# EAGLE library part 658561423050 (library WR-BTB)
WR-BTB Board to Board Characteristics Insulator flammability rating: UL94 V-0 Defined board to board distance from 5.00 mm up to 16.00 mm Available pin-counts: 64 pins (1.0 mm version) / 40, 80 or 100 pins (0.8 mm version) Contact plating: selective gold Operating temperature: -55 °C up to +85 °C Quality class: 30 mating cycles Contact resistance: 30 mΩ Working Voltage: 100 V (AC) UL approval: E323964 Applications Board-to-board connection for secure and fast data connections Defined PCB spacing In conjunction with SMT spacers or threaded spacers, a stable connection of stacked PCBs. <https://www.we-online.com/components/media/o790799v209%20WR-BTB_Gruppe.jpg> Details see: www.we-online.com/en/components/products/WR_BTB <www.we-online.com/catalog/WR_BTB/?utm_source=eagle_model&utm_medium=description_link&utm_campaign=eisos_eagle> Created by Ella 2025-05-14 2025(C) Würth Elektronik
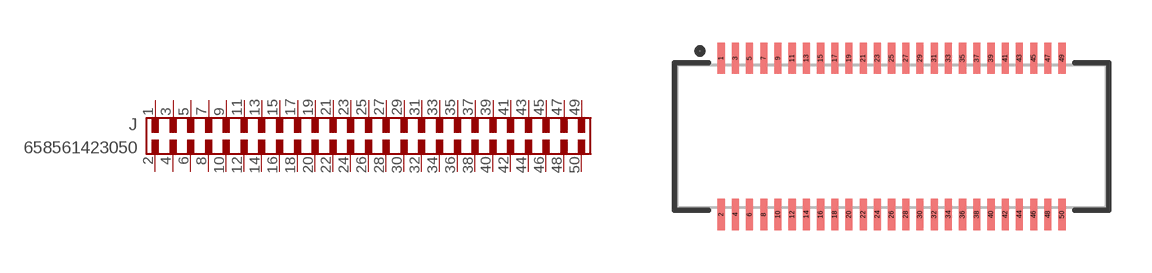
[diagram p7: symbol with the pads of 658561423050; footprint 658561423050]

Designator prefix J

## 658561423050 (DATASHEET-URL: https://www.we-online.com/redexpert/spec/658561423050?ae; GENDER: Plug; HEIGHT: 1.4mm; IR: 300mA; MOUNT: SMT; PACKAGING: Tape and Reel with Cap; PART-NUMBER: 658561423050; PINS: 50; PITCH: 0.5mm; TYPE: Vertical; VALUE: 658561423050)  [658561423050]
1  1  pas
2  2  pas
3  3  pas
4  4  pas
5  5  pas
6  6  pas
7  7  pas
8  8  pas
9  9  pas
10  10  pas
11  11  pas
12  12  pas
13  13  pas
14  14  pas
15  15  pas
16  16  pas
17  17  pas
18  18  pas
19  19  pas
20  20  pas
21  21  pas
22  22  pas
23  23  pas
24  24  pas
25  25  pas
26  26  pas
27  27  pas
28  28  pas
29  29  pas
30  30  pas
31  31  pas
32  32  pas
33  33  pas
34  34  pas
35  35  pas
36  36  pas
37  37  pas
38  38  pas
39  39  pas
40  40  pas
41  41  pas
42  42  pas
43  43  pas
44  44  pas
45  45  pas
46  46  pas
47  47  pas
48  48  pas
49  49  pas
50  50  pas

## Footprint 658561423050 (pad centres in mm)
WR-BTB Board to Board Pitch: 0.5mm, Plug, 50pins, SMT Height = 1.4mm
smd 0.25 x 1.1: 1 -6,2.75; 2 -6,-2.75; 3 -5.5,2.75; 4 -5.5,-2.75; 5 -5,2.75; 6 -5,-2.75; 7 -4.5,2.75; 8 -4.5,-2.75; 9 -4,2.75; 10 -4,-2.75; 11 -3.5,2.75; 12 -3.5,-2.75; 13 -3,2.75; 14 -3,-2.75; 15 -2.5,2.75; 16 -2.5,-2.75; 17 -2,2.75; 18 -2,-2.75; 19 -1.5,2.75; 20 -1.5,-2.75; 21 -1,2.75; 22 -1,-2.75; 23 -0.5,2.75; 24 -0.5,-2.75; 25 0,2.75; 26 0,-2.75; 27 0.5,2.75; 28 0.5,-2.75; 29 1,2.75; 30 1,-2.75; 31 1.5,2.75; 32 1.5,-2.75; 33 2,2.75; 34 2,-2.75; 35 2.5,2.75; 36 2.5,-2.75; 37 3,2.75; 38 3,-2.75; 39 3.5,2.75; 40 3.5,-2.75; 41 4,2.75; 42 4,-2.75; 43 4.5,2.75; 44 4.5,-2.75; 45 5,2.75; 46 5,-2.75; 47 5.5,2.75; 48 5.5,-2.75; 49 6,2.75; 50 6,-2.75